# Altium integrated library ISSI SRAM Synchronous SRAM Flow-Through.IntLib: 689 symbols (part 69 of 79)
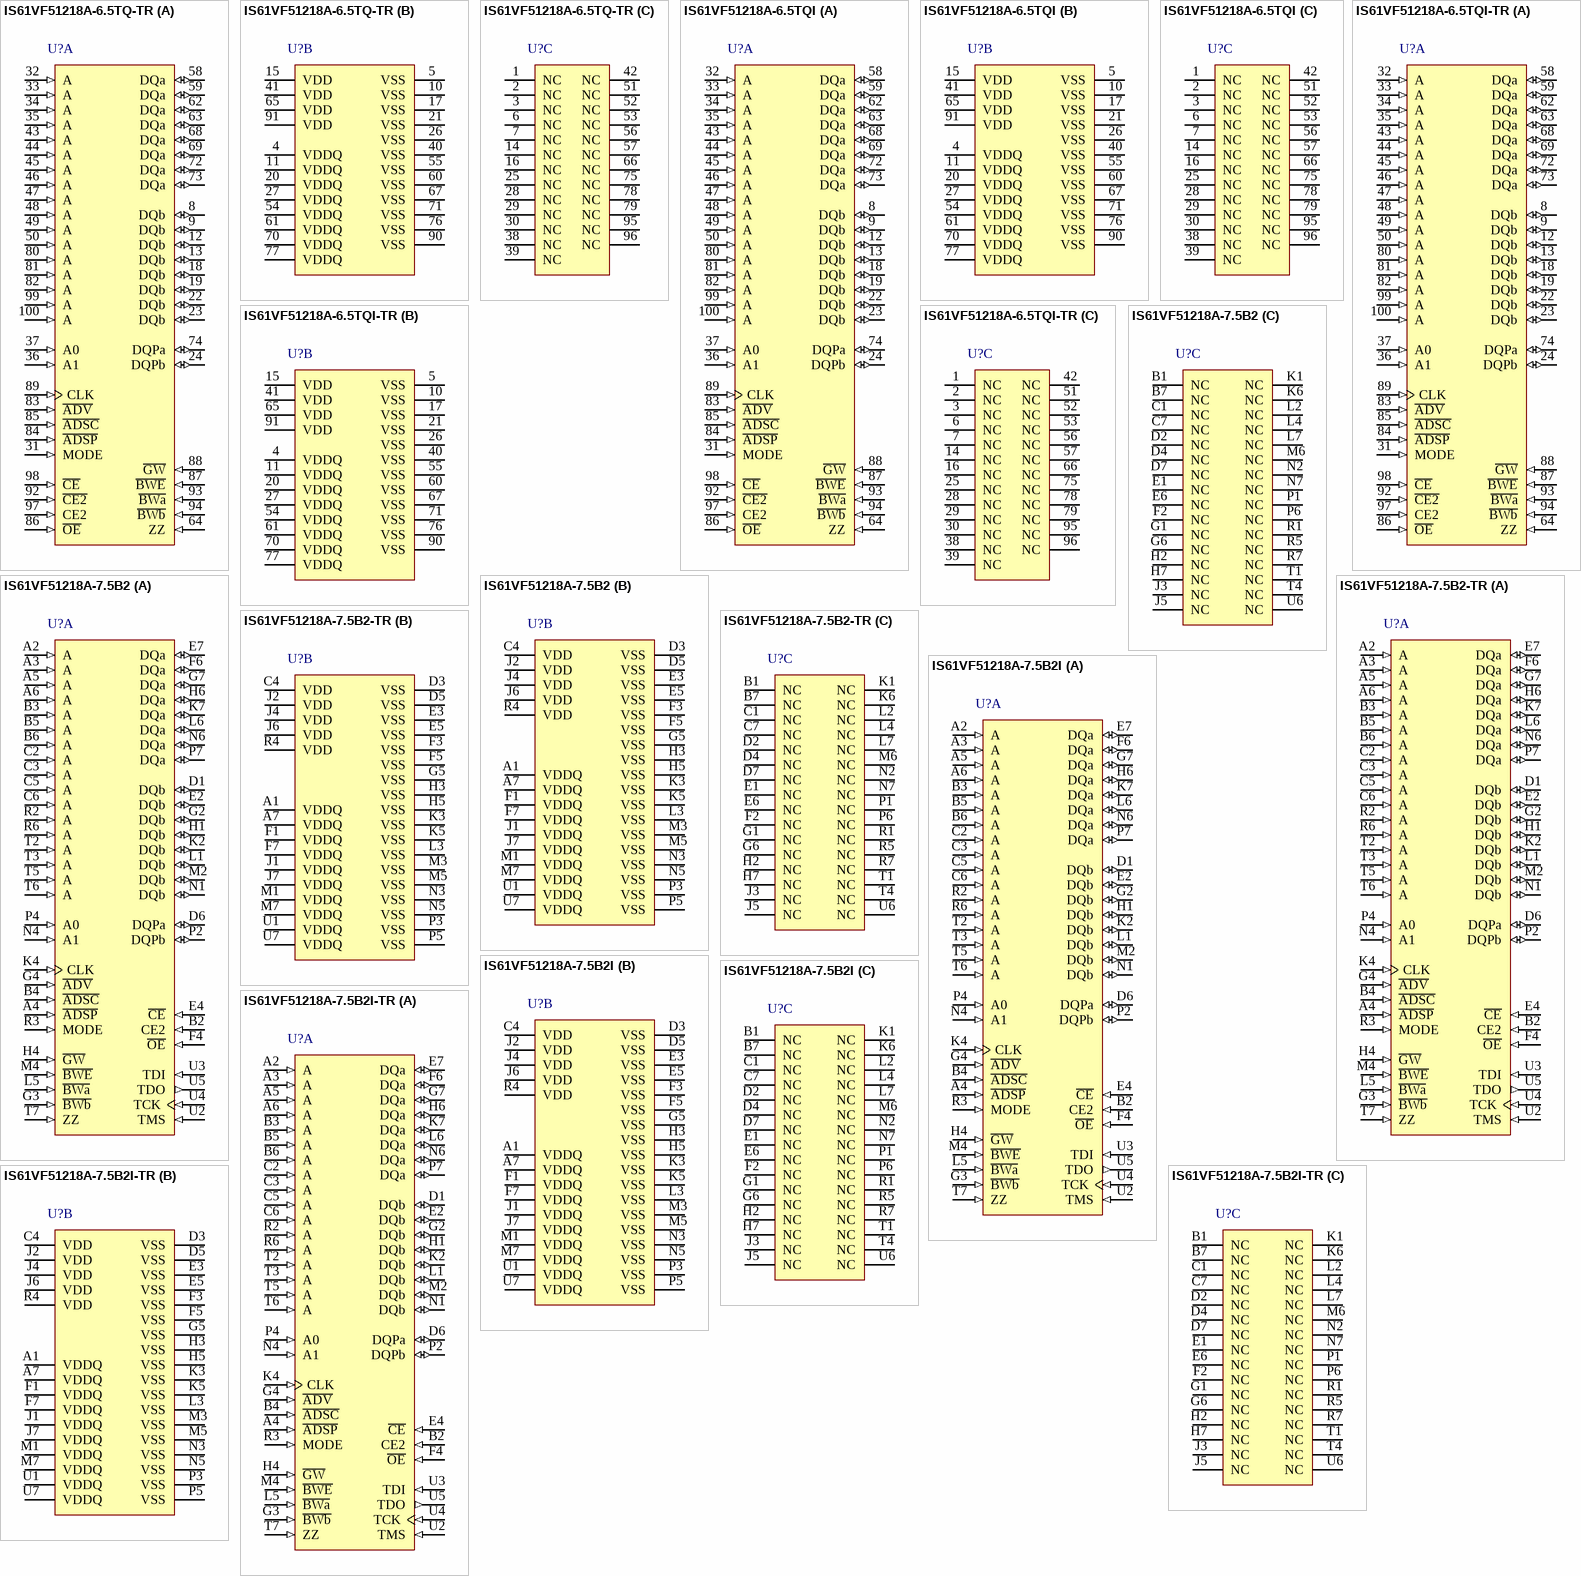
[diagram p203: symbols IS61VF51218A-6.5TQ-TR to IS61VF51218A-7.5B2I-TR]

## IS61VF51218A-6.5TQI-TR
designator U?
9 M Synchronous Flow Through SRAM, 512 K x 18, -40 to 85 degC, 100-Pin QFP (TQFP-100); Manufacturer: Integrated Silicon Solution Inc (ISSI); PartNumber: IS61VF51218A-6.5TQI-TR; Density: 9M; Packing: Tape & Reel; Vcc: 2.5 V; DatasheetVersion: Rev. H; PackageVersion: Rev. F, 09/2009; PackageReference: TQFP-100; PackageDescription: 100-Pin 20 x 14 mm LQFP, Pitch 0.65 mm; Organization: 512Kx18; VccQ: 2.5 V; Mounting Technology: Surface Mount; ComponentLink1Description: Manufacturer URL; ComponentLink1URL: http://www.issi.com/US/index.shtml; ComponentLink2Description: Datasheet; ComponentLink2URL: http://www.issi.com/WW/pdf/61VF_LF25636A_51218A.pdf; ComponentLink3Description: Package Specification; ComponentLink3URL: http://www.issi.com/WW/pdf/61VPS_LPS25636A_51218A.pdf
footprint ISSI-TQFP-100-20000X14000DE_N (QFP, 100-Leads, Body 20x14mm, Pitch 0.65mm, IPC Medium Density)
part A pins: 8 DQb (io) "Synchronous Data Input/Output", 9 DQb (io) "Synchronous Data Input/Output", 12 DQb (io) "Synchronous Data Input/Output", 13 DQb (io) "Synchronous Data Input/Output", 18 DQb (io) "Synchronous Data Input/Output", 19 DQb (io) "Synchronous Data Input/Output", 22 DQb (io) "Synchronous Data Input/Output", 23 DQb (io) "Synchronous Data Input/Output", 24 DQPb (io) "Parity Data I/O; DQPb is parity for DQb1-8", 31 MODE (in) "Burst Sequence Mode Selection", 32 A (in) "Synchronous Address Input", 33 A (in) "Synchronous Address Input", 34 A (in) "Synchronous Address Input", 35 A (in) "Synchronous Address Input", 36 A1 (in) "Synchronous Address Input. These pins must tied to the two LSBs of the address bus.", 37 A0 (in) "Synchronous Address Input. These pins must tied to the two LSBs of the address bus.", 43 A (in) "Synchronous Address Input", 44 A (in) "Synchronous Address Input", 45 A (in) "Synchronous Address Input", 46 A (in) "Synchronous Address Input", 47 A (in) "Synchronous Address Input", 48 A (in) "Synchronous Address Input", 49 A (in) "Synchronous Address Input", 50 A (in) "Synchronous Address Input", 58 DQa (io) "Synchronous Data Input/Output", 59 DQa (io) "Synchronous Data Input/Output", 62 DQa (io) "Synchronous Data Input/Output", 63 DQa (io) "Synchronous Data Input/Output", 64 ZZ (in) "Snooze Enable", 68 DQa (io) "Synchronous Data Input/Output", 69 DQa (io) "Synchronous Data Input/Output", 72 DQa (io) "Synchronous Data Input/Output", 73 DQa (io) "Synchronous Data Input/Output", 74 DQPa (io) "Parity Data I/O; DQPa is parity for DQa1-8", 80 A (in) "Synchronous Address Input", 81 A (in) "Synchronous Address Input", 82 A (in) "Synchronous Address Input", 83 ~{ADV} (in) "Synchronous Burst Address Advance", 84 ~{ADSP} (in) "Synchronous Processor Address Status", 85 ~{ADSC} (in) "Synchronous Controller Address Status", 86 ~{OE} (in) "Output Enable", 87 ~{BWE} (in) "Synchronous Byte Write Enable", 88 ~{GW} (in) "Synchronous Global Write Enable", 89 CLK (in) "Synchronous Clock", 92 ~{CE2} (in) "Synchronous Chip Enable", 93 ~{BWa} (in) "Synchronous Byte Write Enable", 94 ~{BWb} (in) "Synchronous Byte Write Enable", 97 CE2 (in) "Synchronous Chip Enable", 98 ~{CE} (in) "Synchronous Chip Enable", 99 A (in) "Synchronous Address Input", 100 A (in) "Synchronous Address Input"
part B pins: 4 VDDQ (power) "Isolated Output Buffer Supply:3.3V/2.5V", 5 VSS (power) "Ground", 10 VSS (power) "Ground", 11 VDDQ (power) "Isolated Output Buffer Supply:3.3V/2.5V", 15 VDD (power) "3.3V/2.5V Power Supply", 17 VSS (power) "Ground", 20 VDDQ (power) "Isolated Output Buffer Supply:3.3V/2.5V", 21 VSS (power) "Ground", 26 VSS (power) "Ground", 27 VDDQ (power) "Isolated Output Buffer Supply:3.3V/2.5V", 40 VSS (power) "Ground", 41 VDD (power) "3.3V/2.5V Power Supply", 54 VDDQ (power) "Isolated Output Buffer Supply:3.3V/2.5V", 55 VSS (power) "Ground", 60 VSS (power) "Ground", 61 VDDQ (power) "Isolated Output Buffer Supply:3.3V/2.5V", 65 VDD (power) "3.3V/2.5V Power Supply", 67 VSS (power) "Ground", 70 VDDQ (power) "Isolated Output Buffer Supply:3.3V/2.5V", 71 VSS (power) "Ground", 76 VSS (power) "Ground", 77 VDDQ (power) "Isolated Output Buffer Supply:3.3V/2.5V", 90 VSS (power) "Ground", 91 VDD (power) "3.3V/2.5V Power Supply"
part C pins: 1 NC "No Connect", 2 NC "No Connect", 3 NC "No Connect", 6 NC "No Connect", 7 NC "No Connect", 14 NC "No Connect", 16 NC "No Connect", 25 NC "No Connect", 28 NC "No Connect", 29 NC "No Connect", 30 NC "No Connect", 38 NC "No Connect", 39 NC "No Connect", 42 NC "No Connect", 51 NC "No Connect", 52 NC "No Connect", 53 NC "No Connect", 56 NC "No Connect", 57 NC "No Connect", 66 NC "No Connect", 75 NC "No Connect", 78 NC "No Connect", 79 NC "No Connect", 95 NC "No Connect", 96 NC "No Connect"

## IS61VF51218A-7.5B2
designator U?
9 M Synchronous Flow Through SRAM, 512 K x 18, 0 to 70 degC, 119-Pin BGA (PBGA-119); Manufacturer: Integrated Silicon Solution Inc (ISSI); PartNumber: IS61VF51218A-7.5B2; Density: 9M; Packing: Tray / Tube; Vcc: 2.5 V; DatasheetVersion: Rev. H; PackageVersion: Rev. D, 10/2008; PackageReference: PBGA-119; PackageDescription: 119-Pin 14 x 22 mm PBGA, Pitch 1.27 mm; Organization: 512Kx18; VccQ: 2.5 V; Mounting Technology: Surface Mount; Code_JEDEC: MS-028; ComponentLink1Description: Manufacturer URL; ComponentLink1URL: http://www.issi.com/US/index.shtml; ComponentLink2Description: Datasheet; ComponentLink2URL: http://www.issi.com/WW/pdf/61VF_LF25636A_51218A.pdf; ComponentLink3Description: Package Specification; ComponentLink3URL: http://www.issi.com/WW/pdf/61NLP_NVP25636A_51218A.pdf
footprint ISSI-PBGA-119-14000X22000DE (BGA, 119-Balls, Body 22x14mm, Pitch 1.27mm)
part A pins: A2 A (in) "Address Input", A3 A (in) "Address Input", A4 ~{ADSP} (in) "Address Status Processor", A5 A (in) "Address Input", A6 A (in) "Address Input", B2 CE2 (in) "Synchronous Chip Select", B3 A (in) "Address Input", B4 ~{ADSC} (in) "Address Status Controller", B5 A (in) "Address Input", B6 A (in) "Address Input", C2 A (in) "Address Input", C3 A (in) "Address Input", C5 A (in) "Address Input", C6 A (in) "Address Input", D1 DQb (io) "Data Input/Output", D6 DQPa (io) "Parity Data I/O", E2 DQb (io) "Data Input/Output", E4 ~{CE} (in) "Synchronous Chip Select", E7 DQa (io) "Data Input/Output", F4 ~{OE} (in) "Output Enable", F6 DQa (io) "Data Input/Output", G2 DQb (io) "Data Input/Output", G3 ~{BWb} (in) "Synchronous Byte Write Control", G4 ~{ADV} (in) "Synchronous Burst Address Advance", G7 DQa (io) "Data Input/Output", H1 DQb (io) "Data Input/Output", H4 ~{GW} (in) "Global Write Enable", H6 DQa (io) "Data Input/Output", K2 DQb (io) "Data Input/Output", K4 CLK (in) "Synchronous Clock", K7 DQa (io) "Data Input/Output", L1 DQb (io) "Data Input/Output", L5 ~{BWa} (in) "Synchronous Byte Write Control", L6 DQa (io) "Data Input/Output", M2 DQb (io) "Data Input/Output", M4 ~{BWE} (in) "Byte Write Enable", N1 DQb (io) "Data Input/Output", N4 A1 (in) "Synchronous Burst Address Input", N6 DQa (io) "Data Input/Output", P2 DQPb (io) "Parity Data I/O", P4 A0 (in) "Synchronous Burst Address Input", P7 DQa (io) "Data Input/Output", R2 A (in) "Address Input", R3 MODE (in) "Burst Sequence Selection", R6 A (in) "Address Input", T2 A (in) "Address Input", T3 A (in) "Address Input", T5 A (in) "Address Input", T6 A (in) "Address Input", T7 ZZ (in) "Power Sleep Mode", U2 TMS (in) "JTAG Pin", U3 TDI (in) "JTAG Pin", U4 TCK (in) "JTAG Pin", U5 TDO (out) "JTAG Pin"
part B pins: A1 VDDQ (power) "Output Power Supply", A7 VDDQ (power) "Output Power Supply", C4 VDD (power) "Power Supply", D3 VSS (power) "Ground", D5 VSS (power) "Ground", E3 VSS (power) "Ground", E5 VSS (power) "Ground", F1 VDDQ (power) "Output Power Supply", F3 VSS (power) "Ground", F5 VSS (power) "Ground", F7 VDDQ (power) "Output Power Supply", G5 VSS (power) "Ground", H3 VSS (power) "Ground", H5 VSS (power) "Ground", J1 VDDQ (power) "Output Power Supply", J2 VDD (power) "Power Supply", J4 VDD (power) "Power Supply", J6 VDD (power) "Power Supply", J7 VDDQ (power) "Output Power Supply", K3 VSS (power) "Ground", K5 VSS (power) "Ground", L3 VSS (power) "Ground", M1 VDDQ (power) "Output Power Supply", M3 VSS (power) "Ground", M5 VSS (power) "Ground", M7 VDDQ (power) "Output Power Supply", N3 VSS (power) "Ground", N5 VSS (power) "Output Power Supply", P3 VSS (power) "Ground", P5 VSS (power) "Ground", R4 VDD (power) "Power Supply", U1 VDDQ (power) "Output Power Supply", U7 VDDQ (power) "Output Power Supply"
part C pins: B1 NC "No Connect", B7 NC "No Connect", C1 NC "No Connect", C7 NC "No Connect", D2 NC "No Connect", D4 NC "No Connect", D7 NC "No Connect", E1 NC "No Connect", E6 NC "No Connect", F2 NC "No Connect", G1 NC "No Connect", G6 NC "No Connect", H2 NC "No Connect", H7 NC "No Connect", J3 NC "No Connect", J5 NC "No Connect", K1 NC "No Connect", K6 NC "No Connect", L2 NC "No Connect", L4 NC "No Connect", L7 NC "No Connect", M6 NC "No Connect", N2 NC "No Connect", N7 NC "No Connect", P1 NC "No Connect", P6 NC "No Connect", R1 NC "No Connect", R5 NC "No Connect", R7 NC "No Connect", T1 NC "No Connect", T4 NC "No Connect", U6 NC "No Connect"

## IS61VF51218A-7.5B2-TR
designator U?
9 M Synchronous Flow Through SRAM, 512 K x 18, 0 to 70 degC, 119-Pin BGA (PBGA-119); Manufacturer: Integrated Silicon Solution Inc (ISSI); PartNumber: IS61VF51218A-7.5B2-TR; Density: 9M; Packing: Tape & Reel; Vcc: 2.5 V; DatasheetVersion: Rev. H; PackageVersion: Rev. D, 10/2008; PackageReference: PBGA-119; PackageDescription: 119-Pin 14 x 22 mm PBGA, Pitch 1.27 mm; Organization: 512Kx18; VccQ: 2.5 V; Mounting Technology: Surface Mount; Code_JEDEC: MS-028; ComponentLink1Description: Manufacturer URL; ComponentLink1URL: http://www.issi.com/US/index.shtml; ComponentLink2Description: Datasheet; ComponentLink2URL: http://www.issi.com/WW/pdf/61VF_LF25636A_51218A.pdf; ComponentLink3Description: Package Specification; ComponentLink3URL: http://www.issi.com/WW/pdf/61NLP_NVP25636A_51218A.pdf
footprint ISSI-PBGA-119-14000X22000DE (BGA, 119-Balls, Body 22x14mm, Pitch 1.27mm)
part A pins: A2 A (in) "Address Input", A3 A (in) "Address Input", A4 ~{ADSP} (in) "Address Status Processor", A5 A (in) "Address Input", A6 A (in) "Address Input", B2 CE2 (in) "Synchronous Chip Select", B3 A (in) "Address Input", B4 ~{ADSC} (in) "Address Status Controller", B5 A (in) "Address Input", B6 A (in) "Address Input", C2 A (in) "Address Input", C3 A (in) "Address Input", C5 A (in) "Address Input", C6 A (in) "Address Input", D1 DQb (io) "Data Input/Output", D6 DQPa (io) "Parity Data I/O", E2 DQb (io) "Data Input/Output", E4 ~{CE} (in) "Synchronous Chip Select", E7 DQa (io) "Data Input/Output", F4 ~{OE} (in) "Output Enable", F6 DQa (io) "Data Input/Output", G2 DQb (io) "Data Input/Output", G3 ~{BWb} (in) "Synchronous Byte Write Control", G4 ~{ADV} (in) "Synchronous Burst Address Advance", G7 DQa (io) "Data Input/Output", H1 DQb (io) "Data Input/Output", H4 ~{GW} (in) "Global Write Enable", H6 DQa (io) "Data Input/Output", K2 DQb (io) "Data Input/Output", K4 CLK (in) "Synchronous Clock", K7 DQa (io) "Data Input/Output", L1 DQb (io) "Data Input/Output", L5 ~{BWa} (in) "Synchronous Byte Write Control", L6 DQa (io) "Data Input/Output", M2 DQb (io) "Data Input/Output", M4 ~{BWE} (in) "Byte Write Enable", N1 DQb (io) "Data Input/Output", N4 A1 (in) "Synchronous Burst Address Input", N6 DQa (io) "Data Input/Output", P2 DQPb (io) "Parity Data I/O", P4 A0 (in) "Synchronous Burst Address Input", P7 DQa (io) "Data Input/Output", R2 A (in) "Address Input", R3 MODE (in) "Burst Sequence Selection", R6 A (in) "Address Input", T2 A (in) "Address Input", T3 A (in) "Address Input", T5 A (in) "Address Input", T6 A (in) "Address Input", T7 ZZ (in) "Power Sleep Mode", U2 TMS (in) "JTAG Pin", U3 TDI (in) "JTAG Pin", U4 TCK (in) "JTAG Pin", U5 TDO (out) "JTAG Pin"
part B pins: A1 VDDQ (power) "Output Power Supply", A7 VDDQ (power) "Output Power Supply", C4 VDD (power) "Power Supply", D3 VSS (power) "Ground", D5 VSS (power) "Ground", E3 VSS (power) "Ground", E5 VSS (power) "Ground", F1 VDDQ (power) "Output Power Supply", F3 VSS (power) "Ground", F5 VSS (power) "Ground", F7 VDDQ (power) "Output Power Supply", G5 VSS (power) "Ground", H3 VSS (power) "Ground", H5 VSS (power) "Ground", J1 VDDQ (power) "Output Power Supply", J2 VDD (power) "Power Supply", J4 VDD (power) "Power Supply", J6 VDD (power) "Power Supply", J7 VDDQ (power) "Output Power Supply", K3 VSS (power) "Ground", K5 VSS (power) "Ground", L3 VSS (power) "Ground", M1 VDDQ (power) "Output Power Supply", M3 VSS (power) "Ground", M5 VSS (power) "Ground", M7 VDDQ (power) "Output Power Supply", N3 VSS (power) "Ground", N5 VSS (power) "Output Power Supply", P3 VSS (power) "Ground", P5 VSS (power) "Ground", R4 VDD (power) "Power Supply", U1 VDDQ (power) "Output Power Supply", U7 VDDQ (power) "Output Power Supply"
part C pins: B1 NC "No Connect", B7 NC "No Connect", C1 NC "No Connect", C7 NC "No Connect", D2 NC "No Connect", D4 NC "No Connect", D7 NC "No Connect", E1 NC "No Connect", E6 NC "No Connect", F2 NC "No Connect", G1 NC "No Connect", G6 NC "No Connect", H2 NC "No Connect", H7 NC "No Connect", J3 NC "No Connect", J5 NC "No Connect", K1 NC "No Connect", K6 NC "No Connect", L2 NC "No Connect", L4 NC "No Connect", L7 NC "No Connect", M6 NC "No Connect", N2 NC "No Connect", N7 NC "No Connect", P1 NC "No Connect", P6 NC "No Connect", R1 NC "No Connect", R5 NC "No Connect", R7 NC "No Connect", T1 NC "No Connect", T4 NC "No Connect", U6 NC "No Connect"

## IS61VF51218A-7.5B2I
designator U?
9 M Synchronous Flow Through SRAM, 512 K x 18, -40 to 85 degC, 119-Pin BGA (PBGA-119); Manufacturer: Integrated Silicon Solution Inc (ISSI); PartNumber: IS61VF51218A-7.5B2I; Density: 9M; Packing: Tray / Tube; Vcc: 2.5 V; DatasheetVersion: Rev. H; PackageVersion: Rev. D, 10/2008; PackageReference: PBGA-119; PackageDescription: 119-Pin 14 x 22 mm PBGA, Pitch 1.27 mm; Organization: 512Kx18; VccQ: 2.5 V; Mounting Technology: Surface Mount; Code_JEDEC: MS-028; ComponentLink1Description: Manufacturer URL; ComponentLink1URL: http://www.issi.com/US/index.shtml; ComponentLink2Description: Datasheet; ComponentLink2URL: http://www.issi.com/WW/pdf/61VF_LF25636A_51218A.pdf; ComponentLink3Description: Package Specification; ComponentLink3URL: http://www.issi.com/WW/pdf/61NLP_NVP25636A_51218A.pdf
footprint ISSI-PBGA-119-14000X22000DE (BGA, 119-Balls, Body 22x14mm, Pitch 1.27mm)
part A pins: A2 A (in) "Address Input", A3 A (in) "Address Input", A4 ~{ADSP} (in) "Address Status Processor", A5 A (in) "Address Input", A6 A (in) "Address Input", B2 CE2 (in) "Synchronous Chip Select", B3 A (in) "Address Input", B4 ~{ADSC} (in) "Address Status Controller", B5 A (in) "Address Input", B6 A (in) "Address Input", C2 A (in) "Address Input", C3 A (in) "Address Input", C5 A (in) "Address Input", C6 A (in) "Address Input", D1 DQb (io) "Data Input/Output", D6 DQPa (io) "Parity Data I/O", E2 DQb (io) "Data Input/Output", E4 ~{CE} (in) "Synchronous Chip Select", E7 DQa (io) "Data Input/Output", F4 ~{OE} (in) "Output Enable", F6 DQa (io) "Data Input/Output", G2 DQb (io) "Data Input/Output", G3 ~{BWb} (in) "Synchronous Byte Write Control", G4 ~{ADV} (in) "Synchronous Burst Address Advance", G7 DQa (io) "Data Input/Output", H1 DQb (io) "Data Input/Output", H4 ~{GW} (in) "Global Write Enable", H6 DQa (io) "Data Input/Output", K2 DQb (io) "Data Input/Output", K4 CLK (in) "Synchronous Clock", K7 DQa (io) "Data Input/Output", L1 DQb (io) "Data Input/Output", L5 ~{BWa} (in) "Synchronous Byte Write Control", L6 DQa (io) "Data Input/Output", M2 DQb (io) "Data Input/Output", M4 ~{BWE} (in) "Byte Write Enable", N1 DQb (io) "Data Input/Output", N4 A1 (in) "Synchronous Burst Address Input", N6 DQa (io) "Data Input/Output", P2 DQPb (io) "Parity Data I/O", P4 A0 (in) "Synchronous Burst Address Input", P7 DQa (io) "Data Input/Output", R2 A (in) "Address Input", R3 MODE (in) "Burst Sequence Selection", R6 A (in) "Address Input", T2 A (in) "Address Input", T3 A (in) "Address Input", T5 A (in) "Address Input", T6 A (in) "Address Input", T7 ZZ (in) "Power Sleep Mode", U2 TMS (in) "JTAG Pin", U3 TDI (in) "JTAG Pin", U4 TCK (in) "JTAG Pin", U5 TDO (out) "JTAG Pin"
part B pins: A1 VDDQ (power) "Output Power Supply", A7 VDDQ (power) "Output Power Supply", C4 VDD (power) "Power Supply", D3 VSS (power) "Ground", D5 VSS (power) "Ground", E3 VSS (power) "Ground", E5 VSS (power) "Ground", F1 VDDQ (power) "Output Power Supply", F3 VSS (power) "Ground", F5 VSS (power) "Ground", F7 VDDQ (power) "Output Power Supply", G5 VSS (power) "Ground", H3 VSS (power) "Ground", H5 VSS (power) "Ground", J1 VDDQ (power) "Output Power Supply", J2 VDD (power) "Power Supply", J4 VDD (power) "Power Supply", J6 VDD (power) "Power Supply", J7 VDDQ (power) "Output Power Supply", K3 VSS (power) "Ground", K5 VSS (power) "Ground", L3 VSS (power) "Ground", M1 VDDQ (power) "Output Power Supply", M3 VSS (power) "Ground", M5 VSS (power) "Ground", M7 VDDQ (power) "Output Power Supply", N3 VSS (power) "Ground", N5 VSS (power) "Output Power Supply", P3 VSS (power) "Ground", P5 VSS (power) "Ground", R4 VDD (power) "Power Supply", U1 VDDQ (power) "Output Power Supply", U7 VDDQ (power) "Output Power Supply"
part C pins: B1 NC "No Connect", B7 NC "No Connect", C1 NC "No Connect", C7 NC "No Connect", D2 NC "No Connect", D4 NC "No Connect", D7 NC "No Connect", E1 NC "No Connect", E6 NC "No Connect", F2 NC "No Connect", G1 NC "No Connect", G6 NC "No Connect", H2 NC "No Connect", H7 NC "No Connect", J3 NC "No Connect", J5 NC "No Connect", K1 NC "No Connect", K6 NC "No Connect", L2 NC "No Connect", L4 NC "No Connect", L7 NC "No Connect", M6 NC "No Connect", N2 NC "No Connect", N7 NC "No Connect", P1 NC "No Connect", P6 NC "No Connect", R1 NC "No Connect", R5 NC "No Connect", R7 NC "No Connect", T1 NC "No Connect", T4 NC "No Connect", U6 NC "No Connect"

## IS61VF51218A-7.5B2I-TR
designator U?
9 M Synchronous Flow Through SRAM, 512 K x 18, -40 to 85 degC, 119-Pin BGA (PBGA-119); Manufacturer: Integrated Silicon Solution Inc (ISSI); PartNumber: IS61VF51218A-7.5B2I-TR; Density: 9M; Packing: Tape & Reel; Vcc: 2.5 V; DatasheetVersion: Rev. H; PackageVersion: Rev. D, 10/2008; PackageReference: PBGA-119; PackageDescription: 119-Pin 14 x 22 mm PBGA, Pitch 1.27 mm; Organization: 512Kx18; VccQ: 2.5 V; Mounting Technology: Surface Mount; Code_JEDEC: MS-028; ComponentLink1Description: Manufacturer URL; ComponentLink1URL: http://www.issi.com/US/index.shtml; ComponentLink2Description: Datasheet; ComponentLink2URL: http://www.issi.com/WW/pdf/61VF_LF25636A_51218A.pdf; ComponentLink3Description: Package Specification; ComponentLink3URL: http://www.issi.com/WW/pdf/61NLP_NVP25636A_51218A.pdf
footprint ISSI-PBGA-119-14000X22000DE (BGA, 119-Balls, Body 22x14mm, Pitch 1.27mm)
part A pins: A2 A (in) "Address Input", A3 A (in) "Address Input", A4 ~{ADSP} (in) "Address Status Processor", A5 A (in) "Address Input", A6 A (in) "Address Input", B2 CE2 (in) "Synchronous Chip Select", B3 A (in) "Address Input", B4 ~{ADSC} (in) "Address Status Controller", B5 A (in) "Address Input", B6 A (in) "Address Input", C2 A (in) "Address Input", C3 A (in) "Address Input", C5 A (in) "Address Input", C6 A (in) "Address Input", D1 DQb (io) "Data Input/Output", D6 DQPa (io) "Parity Data I/O", E2 DQb (io) "Data Input/Output", E4 ~{CE} (in) "Synchronous Chip Select", E7 DQa (io) "Data Input/Output", F4 ~{OE} (in) "Output Enable", F6 DQa (io) "Data Input/Output", G2 DQb (io) "Data Input/Output", G3 ~{BWb} (in) "Synchronous Byte Write Control", G4 ~{ADV} (in) "Synchronous Burst Address Advance", G7 DQa (io) "Data Input/Output", H1 DQb (io) "Data Input/Output", H4 ~{GW} (in) "Global Write Enable", H6 DQa (io) "Data Input/Output", K2 DQb (io) "Data Input/Output", K4 CLK (in) "Synchronous Clock", K7 DQa (io) "Data Input/Output", L1 DQb (io) "Data Input/Output", L5 ~{BWa} (in) "Synchronous Byte Write Control", L6 DQa (io) "Data Input/Output", M2 DQb (io) "Data Input/Output", M4 ~{BWE} (in) "Byte Write Enable", N1 DQb (io) "Data Input/Output", N4 A1 (in) "Synchronous Burst Address Input", N6 DQa (io) "Data Input/Output", P2 DQPb (io) "Parity Data I/O", P4 A0 (in) "Synchronous Burst Address Input", P7 DQa (io) "Data Input/Output", R2 A (in) "Address Input", R3 MODE (in) "Burst Sequence Selection", R6 A (in) "Address Input", T2 A (in) "Address Input", T3 A (in) "Address Input", T5 A (in) "Address Input", T6 A (in) "Address Input", T7 ZZ (in) "Power Sleep Mode", U2 TMS (in) "JTAG Pin", U3 TDI (in) "JTAG Pin", U4 TCK (in) "JTAG Pin", U5 TDO (out) "JTAG Pin"
part B pins: A1 VDDQ (power) "Output Power Supply", A7 VDDQ (power) "Output Power Supply", C4 VDD (power) "Power Supply", D3 VSS (power) "Ground", D5 VSS (power) "Ground", E3 VSS (power) "Ground", E5 VSS (power) "Ground", F1 VDDQ (power) "Output Power Supply", F3 VSS (power) "Ground", F5 VSS (power) "Ground", F7 VDDQ (power) "Output Power Supply", G5 VSS (power) "Ground", H3 VSS (power) "Ground", H5 VSS (power) "Ground", J1 VDDQ (power) "Output Power Supply", J2 VDD (power) "Power Supply", J4 VDD (power) "Power Supply", J6 VDD (power) "Power Supply", J7 VDDQ (power) "Output Power Supply", K3 VSS (power) "Ground", K5 VSS (power) "Ground", L3 VSS (power) "Ground", M1 VDDQ (power) "Output Power Supply", M3 VSS (power) "Ground", M5 VSS (power) "Ground", M7 VDDQ (power) "Output Power Supply", N3 VSS (power) "Ground", N5 VSS (power) "Output Power Supply", P3 VSS (power) "Ground", P5 VSS (power) "Ground", R4 VDD (power) "Power Supply", U1 VDDQ (power) "Output Power Supply", U7 VDDQ (power) "Output Power Supply"
part C pins: B1 NC "No Connect", B7 NC "No Connect", C1 NC "No Connect", C7 NC "No Connect", D2 NC "No Connect", D4 NC "No Connect", D7 NC "No Connect", E1 NC "No Connect", E6 NC "No Connect", F2 NC "No Connect", G1 NC "No Connect", G6 NC "No Connect", H2 NC "No Connect", H7 NC "No Connect", J3 NC "No Connect", J5 NC "No Connect", K1 NC "No Connect", K6 NC "No Connect", L2 NC "No Connect", L4 NC "No Connect", L7 NC "No Connect", M6 NC "No Connect", N2 NC "No Connect", N7 NC "No Connect", P1 NC "No Connect", P6 NC "No Connect", R1 NC "No Connect", R5 NC "No Connect", R7 NC "No Connect", T1 NC "No Connect", T4 NC "No Connect", U6 NC "No Connect"

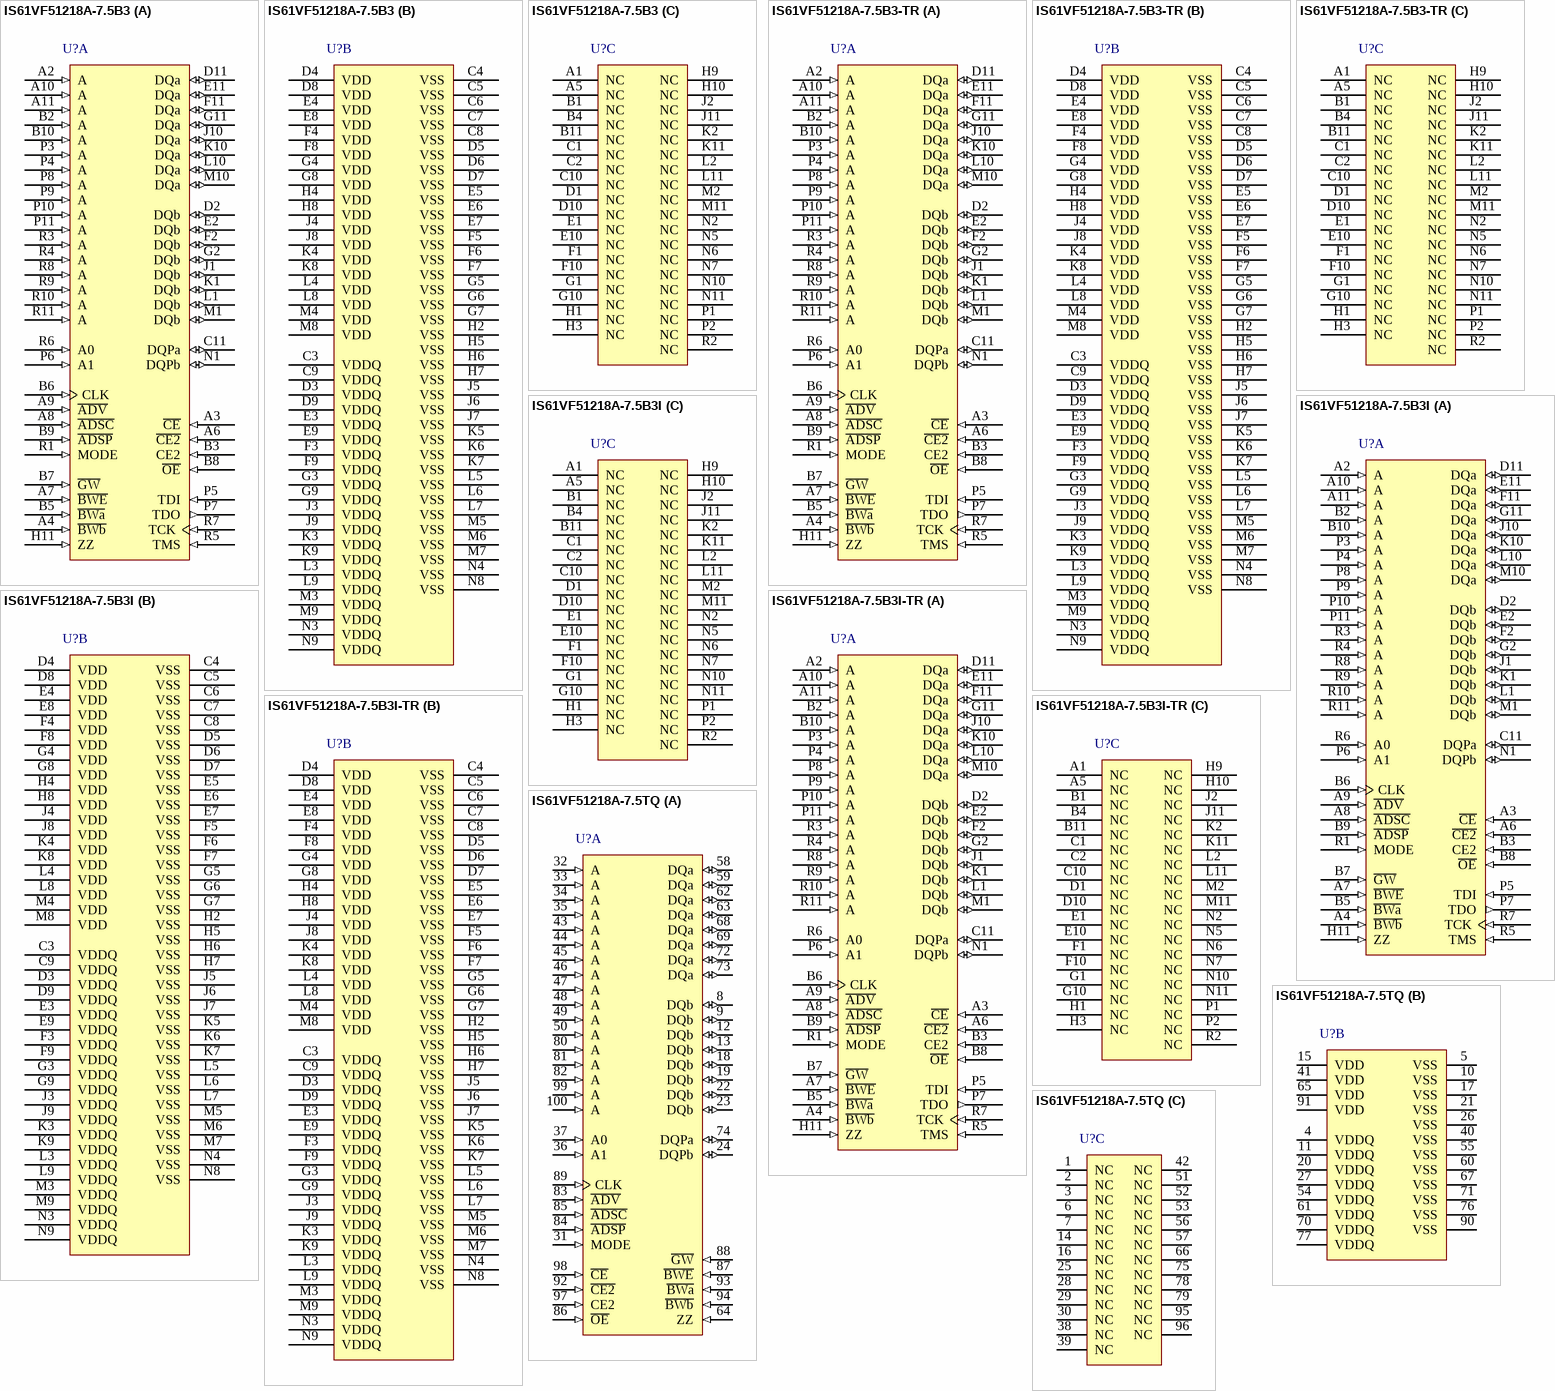
[diagram p118: symbols IS61VF51218A-7.5B3 to IS61VF51218A-7.5TQ]

## IS61VF51218A-7.5B3
designator U?
9 M Synchronous Flow Through SRAM, 512 K x 18, 0 to 70 degC, 165-Pin BGA (TF-BGA-165); Manufacturer: Integrated Silicon Solution Inc (ISSI); PartNumber: IS61VF51218A-7.5B3; Density: 9M; Packing: Tray / Tube; Vcc: 2.5 V; DatasheetVersion: Rev. H; PackageVersion: Rev. B, 08/2008; PackageReference: TF-BGA-165; PackageDescription: 165-Pin 13 x 15 mm TF-BGA, Pitch 1 mm; Organization: 512Kx18; VccQ: 2.5 V; Mounting Technology: Surface Mount; ComponentLink1Description: Manufacturer URL; ComponentLink1URL: http://www.issi.com/US/index.shtml; ComponentLink2Description: Datasheet; ComponentLink2URL: http://www.issi.com/WW/pdf/61VF_LF25636A_51218A.pdf; ComponentLink3Description: Package Specification; ComponentLink3URL: http://www.issi.com/WW/pdf/61NLP_NVP25636A_51218A.pdf
footprint ISSI-TF-BGA-165-13000X15000DE (BGA, 165-Balls, Body 15x13mm, Pitch 1mm)
part A pins: A2 A (in) "Address Input", A3 ~{CE} (in) "Synchronous Chip Select", A4 ~{BWb} (in) "Synchronous Byte Write Control", A6 ~{CE2} (in) "Synchronous Chip Select", A7 ~{BWE} (in) "Byte Write Enable", A8 ~{ADSC} (in) "Address Status Controller", A9 ~{ADV} (in) "Synchronous Burst Address Advance", A10 A (in) "Address Input", A11 A (in) "Address Input", B2 A (in) "Address Input", B3 CE2 (in) "Synchronous Chip Select", B5 ~{BWa} (in) "Synchronous Byte Write Control", B6 CLK (in) "Synchronous Clock", B7 ~{GW} (in) "Global Write Enable", B8 ~{OE} (in) "Output Enable", B9 ~{ADSP} (in) "Address Status Processor", B10 A (in) "Address Input", C11 DQPa (io) "Data Input/Output", D2 DQb (io) "Data Input/Output", D11 DQa (io) "Data Input/Output", E2 DQb (io) "Data Input/Output", E11 DQa (io) "Data Input/Output", F2 DQb (io) "Data Input/Output", F11 DQa (io) "Data Input/Output", G2 DQb (io) "Data Input/Output", G11 DQa (io) "Data Input/Output", H11 ZZ (in) "Power Sleep Mode", J1 DQb (io) "Data Input/Output", J10 DQa (io) "Data Input/Output", K1 DQb (io) "Data Input/Output", K10 DQa (io) "Data Input/Output", L1 DQb (io) "Data Input/Output", L10 DQa (io) "Data Input/Output", M1 DQb (io) "Data Input/Output", M10 DQa (io) "Data Input/Output", N1 DQPb (io) "Data Input/Output", P3 A (in) "Address Input", P4 A (in) "Address Input", P5 TDI (in) "JTAG Pin", P6 A1 (in) "Synchronous Burst Address Input", P7 TDO (out) "JTAG Pin", P8 A (in) "Address Input", P9 A (in) "Address Input", P10 A (in) "Address Input", P11 A (in) "Address Input", R1 MODE (in) "Burst Sequence Selection", R3 A (in) "Address Input", R4 A (in) "Address Input", R5 TMS (in) "JTAG Pin", R6 A0 (in) "Synchronous Burst Address Input", R7 TCK (in) "JTAG Pin", R8 A (in) "Address Input", R9 A (in) "Address Input", R10 A (in) "Address Input", R11 A (in) "Address Input"
part B pins: C3 VDDQ (power) "Isolated Output Power Supply 3.3V/2.5V", C4 VSS (power) "Ground", C5 VSS (power) "Ground", C6 VSS (power) "Ground", C7 VSS (power) "Ground", C8 VSS (power) "Ground", C9 VDDQ (power) "Isolated Output Power Supply 3.3V/2.5V", D3 VDDQ (power) "Isolated Output Power Supply 3.3V/2.5V", D4 VDD (power) "3.3V/2.5V Power Supply", D5 VSS (power) "Ground", D6 VSS (power) "Ground", D7 VSS (power) "Ground", D8 VDD (power) "3.3V/2.5V Power Supply", D9 VDDQ (power) "Isolated Output Power Supply 3.3V/2.5V", E3 VDDQ (power) "Isolated Output Power Supply 3.3V/2.5V", E4 VDD (power) "3.3V/2.5V Power Supply", E5 VSS (power) "Ground", E6 VSS (power) "Ground", E7 VSS (power) "Ground", E8 VDD (power) "3.3V/2.5V Power Supply", E9 VDDQ (power) "Isolated Output Power Supply 3.3V/2.5V", F3 VDDQ (power) "Isolated Output Power Supply 3.3V/2.5V", F4 VDD (power) "3.3V/2.5V Power Supply", F5 VSS (power) "Ground", F6 VSS (power) "Ground", F7 VSS (power) "Ground", F8 VDD (power) "3.3V/2.5V Power Supply", F9 VDDQ (power) "Isolated Output Power Supply 3.3V/2.5V", G3 VDDQ (power) "Isolated Output Power Supply 3.3V/2.5V", G4 VDD (power) "3.3V/2.5V Power Supply", G5 VSS (power) "Ground", G6 VSS (power) "Ground", G7 VSS (power) "Ground", G8 VDD (power) "3.3V/2.5V Power Supply", G9 VDDQ (power) "Isolated Output Power Supply 3.3V/2.5V", H2 VSS (power) "Ground", H4 VDD (power) "3.3V/2.5V Power Supply", H5 VSS (power) "Ground", H6 VSS (power) "Ground", H7 VSS (power) "Ground", H8 VDD (power) "3.3V/2.5V Power Supply", J3 VDDQ (power) "Isolated Output Power Supply 3.3V/2.5V", J4 VDD (power) "3.3V/2.5V Power Supply", J5 VSS (power) "Ground", J6 VSS (power) "Ground", J7 VSS (power) "Ground", J8 VDD (power) "3.3V/2.5V Power Supply", J9 VDDQ (power) "Isolated Output Power Supply 3.3V/2.5V", K3 VDDQ (power) "Isolated Output Power Supply 3.3V/2.5V", K4 VDD (power) "3.3V/2.5V Power Supply", K5 VSS (power) "Ground", K6 VSS (power) "Ground", K7 VSS (power) "Ground", K8 VDD (power) "3.3V/2.5V Power Supply", K9 VDDQ (power) "Isolated Output Power Supply 3.3V/2.5V", L3 VDDQ (power) "Isolated Output Power Supply 3.3V/2.5V", L4 VDD (power) "3.3V/2.5V Power Supply", L5 VSS (power) "Ground", L6 VSS (power) "Ground", L7 VSS (power) "Ground", L8 VDD (power) "3.3V/2.5V Power Supply", L9 VDDQ (power) "Isolated Output Power Supply 3.3V/2.5V", M3 VDDQ (power) "Isolated Output Power Supply 3.3V/2.5V", M4 VDD (power) "3.3V/2.5V Power Supply", M5 VSS (power) "Ground", M6 VSS (power) "Ground", M7 VSS (power) "Ground", M8 VDD (power) "3.3V/2.5V Power Supply", M9 VDDQ (power) "Isolated Output Power Supply 3.3V/2.5V", N3 VDDQ (power) "Isolated Output Power Supply 3.3V/2.5V", N4 VSS (power) "Ground", N8 VSS (power) "Ground", N9 VDDQ (power) "Isolated Output Power Supply 3.3V/2.5V"
part C pins: A1 NC "No Connect", A5 NC "No Connect", B1 NC "No Connect", B4 NC "No Connect", B11 NC "No Connect", C1 NC "No Connect", C2 NC "No Connect", C10 NC "No Connect", D1 NC "No Connect", D10 NC "No Connect", E1 NC "No Connect", E10 NC "No Connect", F1 NC "No Connect", F10 NC "No Connect", G1 NC "No Connect", G10 NC "No Connect", H1 NC "No Connect", H3 NC "No Connect", H9 NC "No Connect", H10 NC "No Connect", J2 NC "No Connect", J11 NC "No Connect", K2 NC "No Connect", K11 NC "No Connect", L2 NC "No Connect", L11 NC "No Connect", M2 NC "No Connect", M11 NC "No Connect", N2 NC "No Connect", N5 NC "No Connect", N6 NC "No Connect", N7 NC "No Connect", N10 NC "No Connect", N11 NC "No Connect", P1 NC "No Connect", P2 NC "No Connect", R2 NC "No Connect"

## IS61VF51218A-7.5B3-TR
designator U?
9 M Synchronous Flow Through SRAM, 512 K x 18, 0 to 70 degC, 165-Pin BGA (TF-BGA-165); Manufacturer: Integrated Silicon Solution Inc (ISSI); PartNumber: IS61VF51218A-7.5B3-TR; Density: 9M; Packing: Tape & Reel; Vcc: 2.5 V; DatasheetVersion: Rev. H; PackageVersion: Rev. B, 08/2008; PackageReference: TF-BGA-165; PackageDescription: 165-Pin 13 x 15 mm TF-BGA, Pitch 1 mm; Organization: 512Kx18; VccQ: 2.5 V; Mounting Technology: Surface Mount; ComponentLink1Description: Manufacturer URL; ComponentLink1URL: http://www.issi.com/US/index.shtml; ComponentLink2Description: Datasheet; ComponentLink2URL: http://www.issi.com/WW/pdf/61VF_LF25636A_51218A.pdf; ComponentLink3Description: Package Specification; ComponentLink3URL: http://www.issi.com/WW/pdf/61NLP_NVP25636A_51218A.pdf
footprint ISSI-TF-BGA-165-13000X15000DE (BGA, 165-Balls, Body 15x13mm, Pitch 1mm)
part A pins: A2 A (in) "Address Input", A3 ~{CE} (in) "Synchronous Chip Select", A4 ~{BWb} (in) "Synchronous Byte Write Control", A6 ~{CE2} (in) "Synchronous Chip Select", A7 ~{BWE} (in) "Byte Write Enable", A8 ~{ADSC} (in) "Address Status Controller", A9 ~{ADV} (in) "Synchronous Burst Address Advance", A10 A (in) "Address Input", A11 A (in) "Address Input", B2 A (in) "Address Input", B3 CE2 (in) "Synchronous Chip Select", B5 ~{BWa} (in) "Synchronous Byte Write Control", B6 CLK (in) "Synchronous Clock", B7 ~{GW} (in) "Global Write Enable", B8 ~{OE} (in) "Output Enable", B9 ~{ADSP} (in) "Address Status Processor", B10 A (in) "Address Input", C11 DQPa (io) "Data Input/Output", D2 DQb (io) "Data Input/Output", D11 DQa (io) "Data Input/Output", E2 DQb (io) "Data Input/Output", E11 DQa (io) "Data Input/Output", F2 DQb (io) "Data Input/Output", F11 DQa (io) "Data Input/Output", G2 DQb (io) "Data Input/Output", G11 DQa (io) "Data Input/Output", H11 ZZ (in) "Power Sleep Mode", J1 DQb (io) "Data Input/Output", J10 DQa (io) "Data Input/Output", K1 DQb (io) "Data Input/Output", K10 DQa (io) "Data Input/Output", L1 DQb (io) "Data Input/Output", L10 DQa (io) "Data Input/Output", M1 DQb (io) "Data Input/Output", M10 DQa (io) "Data Input/Output", N1 DQPb (io) "Data Input/Output", P3 A (in) "Address Input", P4 A (in) "Address Input", P5 TDI (in) "JTAG Pin", P6 A1 (in) "Synchronous Burst Address Input", P7 TDO (out) "JTAG Pin", P8 A (in) "Address Input", P9 A (in) "Address Input", P10 A (in) "Address Input", P11 A (in) "Address Input", R1 MODE (in) "Burst Sequence Selection", R3 A (in) "Address Input", R4 A (in) "Address Input", R5 TMS (in) "JTAG Pin", R6 A0 (in) "Synchronous Burst Address Input", R7 TCK (in) "JTAG Pin", R8 A (in) "Address Input", R9 A (in) "Address Input", R10 A (in) "Address Input", R11 A (in) "Address Input"
part B pins: C3 VDDQ (power) "Isolated Output Power Supply 3.3V/2.5V", C4 VSS (power) "Ground", C5 VSS (power) "Ground", C6 VSS (power) "Ground", C7 VSS (power) "Ground", C8 VSS (power) "Ground", C9 VDDQ (power) "Isolated Output Power Supply 3.3V/2.5V", D3 VDDQ (power) "Isolated Output Power Supply 3.3V/2.5V", D4 VDD (power) "3.3V/2.5V Power Supply", D5 VSS (power) "Ground", D6 VSS (power) "Ground", D7 VSS (power) "Ground", D8 VDD (power) "3.3V/2.5V Power Supply", D9 VDDQ (power) "Isolated Output Power Supply 3.3V/2.5V", E3 VDDQ (power) "Isolated Output Power Supply 3.3V/2.5V", E4 VDD (power) "3.3V/2.5V Power Supply", E5 VSS (power) "Ground", E6 VSS (power) "Ground", E7 VSS (power) "Ground", E8 VDD (power) "3.3V/2.5V Power Supply", E9 VDDQ (power) "Isolated Output Power Supply 3.3V/2.5V", F3 VDDQ (power) "Isolated Output Power Supply 3.3V/2.5V", F4 VDD (power) "3.3V/2.5V Power Supply", F5 VSS (power) "Ground", F6 VSS (power) "Ground", F7 VSS (power) "Ground", F8 VDD (power) "3.3V/2.5V Power Supply", F9 VDDQ (power) "Isolated Output Power Supply 3.3V/2.5V", G3 VDDQ (power) "Isolated Output Power Supply 3.3V/2.5V", G4 VDD (power) "3.3V/2.5V Power Supply", G5 VSS (power) "Ground", G6 VSS (power) "Ground", G7 VSS (power) "Ground", G8 VDD (power) "3.3V/2.5V Power Supply", G9 VDDQ (power) "Isolated Output Power Supply 3.3V/2.5V", H2 VSS (power) "Ground", H4 VDD (power) "3.3V/2.5V Power Supply", H5 VSS (power) "Ground", H6 VSS (power) "Ground", H7 VSS (power) "Ground", H8 VDD (power) "3.3V/2.5V Power Supply", J3 VDDQ (power) "Isolated Output Power Supply 3.3V/2.5V", J4 VDD (power) "3.3V/2.5V Power Supply", J5 VSS (power) "Ground", J6 VSS (power) "Ground", J7 VSS (power) "Ground", J8 VDD (power) "3.3V/2.5V Power Supply", J9 VDDQ (power) "Isolated Output Power Supply 3.3V/2.5V", K3 VDDQ (power) "Isolated Output Power Supply 3.3V/2.5V", K4 VDD (power) "3.3V/2.5V Power Supply", K5 VSS (power) "Ground", K6 VSS (power) "Ground", K7 VSS (power) "Ground", K8 VDD (power) "3.3V/2.5V Power Supply", K9 VDDQ (power) "Isolated Output Power Supply 3.3V/2.5V", L3 VDDQ (power) "Isolated Output Power Supply 3.3V/2.5V", L4 VDD (power) "3.3V/2.5V Power Supply", L5 VSS (power) "Ground", L6 VSS (power) "Ground", L7 VSS (power) "Ground", L8 VDD (power) "3.3V/2.5V Power Supply", L9 VDDQ (power) "Isolated Output Power Supply 3.3V/2.5V", M3 VDDQ (power) "Isolated Output Power Supply 3.3V/2.5V", M4 VDD (power) "3.3V/2.5V Power Supply", M5 VSS (power) "Ground", M6 VSS (power) "Ground", M7 VSS (power) "Ground", M8 VDD (power) "3.3V/2.5V Power Supply", M9 VDDQ (power) "Isolated Output Power Supply 3.3V/2.5V", N3 VDDQ (power) "Isolated Output Power Supply 3.3V/2.5V", N4 VSS (power) "Ground", N8 VSS (power) "Ground", N9 VDDQ (power) "Isolated Output Power Supply 3.3V/2.5V"
part C pins: A1 NC "No Connect", A5 NC "No Connect", B1 NC "No Connect", B4 NC "No Connect", B11 NC "No Connect", C1 NC "No Connect", C2 NC "No Connect", C10 NC "No Connect", D1 NC "No Connect", D10 NC "No Connect", E1 NC "No Connect", E10 NC "No Connect", F1 NC "No Connect", F10 NC "No Connect", G1 NC "No Connect", G10 NC "No Connect", H1 NC "No Connect", H3 NC "No Connect", H9 NC "No Connect", H10 NC "No Connect", J2 NC "No Connect", J11 NC "No Connect", K2 NC "No Connect", K11 NC "No Connect", L2 NC "No Connect", L11 NC "No Connect", M2 NC "No Connect", M11 NC "No Connect", N2 NC "No Connect", N5 NC "No Connect", N6 NC "No Connect", N7 NC "No Connect", N10 NC "No Connect", N11 NC "No Connect", P1 NC "No Connect", P2 NC "No Connect", R2 NC "No Connect"

## IS61VF51218A-7.5B3I
designator U?
9 M Synchronous Flow Through SRAM, 512 K x 18, -40 to 85 degC, 165-Pin BGA (TF-BGA-165); Manufacturer: Integrated Silicon Solution Inc (ISSI); PartNumber: IS61VF51218A-7.5B3I; Density: 9M; Packing: Tray / Tube; Vcc: 2.5 V; DatasheetVersion: Rev. H; PackageVersion: Rev. B, 08/2008; PackageReference: TF-BGA-165; PackageDescription: 165-Pin 13 x 15 mm TF-BGA, Pitch 1 mm; Organization: 512Kx18; VccQ: 2.5 V; Mounting Technology: Surface Mount; ComponentLink1Description: Manufacturer URL; ComponentLink1URL: http://www.issi.com/US/index.shtml; ComponentLink2Description: Datasheet; ComponentLink2URL: http://www.issi.com/WW/pdf/61VF_LF25636A_51218A.pdf; ComponentLink3Description: Package Specification; ComponentLink3URL: http://www.issi.com/WW/pdf/61NLP_NVP25636A_51218A.pdf
footprint ISSI-TF-BGA-165-13000X15000DE (BGA, 165-Balls, Body 15x13mm, Pitch 1mm)
part A pins: A2 A (in) "Address Input", A3 ~{CE} (in) "Synchronous Chip Select", A4 ~{BWb} (in) "Synchronous Byte Write Control", A6 ~{CE2} (in) "Synchronous Chip Select", A7 ~{BWE} (in) "Byte Write Enable", A8 ~{ADSC} (in) "Address Status Controller", A9 ~{ADV} (in) "Synchronous Burst Address Advance", A10 A (in) "Address Input", A11 A (in) "Address Input", B2 A (in) "Address Input", B3 CE2 (in) "Synchronous Chip Select", B5 ~{BWa} (in) "Synchronous Byte Write Control", B6 CLK (in) "Synchronous Clock", B7 ~{GW} (in) "Global Write Enable", B8 ~{OE} (in) "Output Enable", B9 ~{ADSP} (in) "Address Status Processor", B10 A (in) "Address Input", C11 DQPa (io) "Data Input/Output", D2 DQb (io) "Data Input/Output", D11 DQa (io) "Data Input/Output", E2 DQb (io) "Data Input/Output", E11 DQa (io) "Data Input/Output", F2 DQb (io) "Data Input/Output", F11 DQa (io) "Data Input/Output", G2 DQb (io) "Data Input/Output", G11 DQa (io) "Data Input/Output", H11 ZZ (in) "Power Sleep Mode", J1 DQb (io) "Data Input/Output", J10 DQa (io) "Data Input/Output", K1 DQb (io) "Data Input/Output", K10 DQa (io) "Data Input/Output", L1 DQb (io) "Data Input/Output", L10 DQa (io) "Data Input/Output", M1 DQb (io) "Data Input/Output", M10 DQa (io) "Data Input/Output", N1 DQPb (io) "Data Input/Output", P3 A (in) "Address Input", P4 A (in) "Address Input", P5 TDI (in) "JTAG Pin", P6 A1 (in) "Synchronous Burst Address Input", P7 TDO (out) "JTAG Pin", P8 A (in) "Address Input", P9 A (in) "Address Input", P10 A (in) "Address Input", P11 A (in) "Address Input", R1 MODE (in) "Burst Sequence Selection", R3 A (in) "Address Input", R4 A (in) "Address Input", R5 TMS (in) "JTAG Pin", R6 A0 (in) "Synchronous Burst Address Input", R7 TCK (in) "JTAG Pin", R8 A (in) "Address Input", R9 A (in) "Address Input", R10 A (in) "Address Input", R11 A (in) "Address Input"
part B pins: C3 VDDQ (power) "Isolated Output Power Supply 3.3V/2.5V", C4 VSS (power) "Ground", C5 VSS (power) "Ground", C6 VSS (power) "Ground", C7 VSS (power) "Ground", C8 VSS (power) "Ground", C9 VDDQ (power) "Isolated Output Power Supply 3.3V/2.5V", D3 VDDQ (power) "Isolated Output Power Supply 3.3V/2.5V", D4 VDD (power) "3.3V/2.5V Power Supply", D5 VSS (power) "Ground", D6 VSS (power) "Ground", D7 VSS (power) "Ground", D8 VDD (power) "3.3V/2.5V Power Supply", D9 VDDQ (power) "Isolated Output Power Supply 3.3V/2.5V", E3 VDDQ (power) "Isolated Output Power Supply 3.3V/2.5V", E4 VDD (power) "3.3V/2.5V Power Supply", E5 VSS (power) "Ground", E6 VSS (power) "Ground", E7 VSS (power) "Ground", E8 VDD (power) "3.3V/2.5V Power Supply", E9 VDDQ (power) "Isolated Output Power Supply 3.3V/2.5V", F3 VDDQ (power) "Isolated Output Power Supply 3.3V/2.5V", F4 VDD (power) "3.3V/2.5V Power Supply", F5 VSS (power) "Ground", F6 VSS (power) "Ground", F7 VSS (power) "Ground", F8 VDD (power) "3.3V/2.5V Power Supply", F9 VDDQ (power) "Isolated Output Power Supply 3.3V/2.5V", G3 VDDQ (power) "Isolated Output Power Supply 3.3V/2.5V", G4 VDD (power) "3.3V/2.5V Power Supply", G5 VSS (power) "Ground", G6 VSS (power) "Ground", G7 VSS (power) "Ground", G8 VDD (power) "3.3V/2.5V Power Supply", G9 VDDQ (power) "Isolated Output Power Supply 3.3V/2.5V", H2 VSS (power) "Ground", H4 VDD (power) "3.3V/2.5V Power Supply", H5 VSS (power) "Ground", H6 VSS (power) "Ground", H7 VSS (power) "Ground", H8 VDD (power) "3.3V/2.5V Power Supply", J3 VDDQ (power) "Isolated Output Power Supply 3.3V/2.5V", J4 VDD (power) "3.3V/2.5V Power Supply", J5 VSS (power) "Ground", J6 VSS (power) "Ground", J7 VSS (power) "Ground", J8 VDD (power) "3.3V/2.5V Power Supply", J9 VDDQ (power) "Isolated Output Power Supply 3.3V/2.5V", K3 VDDQ (power) "Isolated Output Power Supply 3.3V/2.5V", K4 VDD (power) "3.3V/2.5V Power Supply", K5 VSS (power) "Ground", K6 VSS (power) "Ground", K7 VSS (power) "Ground", K8 VDD (power) "3.3V/2.5V Power Supply", K9 VDDQ (power) "Isolated Output Power Supply 3.3V/2.5V", L3 VDDQ (power) "Isolated Output Power Supply 3.3V/2.5V", L4 VDD (power) "3.3V/2.5V Power Supply", L5 VSS (power) "Ground", L6 VSS (power) "Ground", L7 VSS (power) "Ground", L8 VDD (power) "3.3V/2.5V Power Supply", L9 VDDQ (power) "Isolated Output Power Supply 3.3V/2.5V", M3 VDDQ (power) "Isolated Output Power Supply 3.3V/2.5V", M4 VDD (power) "3.3V/2.5V Power Supply", M5 VSS (power) "Ground", M6 VSS (power) "Ground", M7 VSS (power) "Ground", M8 VDD (power) "3.3V/2.5V Power Supply", M9 VDDQ (power) "Isolated Output Power Supply 3.3V/2.5V", N3 VDDQ (power) "Isolated Output Power Supply 3.3V/2.5V", N4 VSS (power) "Ground", N8 VSS (power) "Ground", N9 VDDQ (power) "Isolated Output Power Supply 3.3V/2.5V"
part C pins: A1 NC "No Connect", A5 NC "No Connect", B1 NC "No Connect", B4 NC "No Connect", B11 NC "No Connect", C1 NC "No Connect", C2 NC "No Connect", C10 NC "No Connect", D1 NC "No Connect", D10 NC "No Connect", E1 NC "No Connect", E10 NC "No Connect", F1 NC "No Connect", F10 NC "No Connect", G1 NC "No Connect", G10 NC "No Connect", H1 NC "No Connect", H3 NC "No Connect", H9 NC "No Connect", H10 NC "No Connect", J2 NC "No Connect", J11 NC "No Connect", K2 NC "No Connect", K11 NC "No Connect", L2 NC "No Connect", L11 NC "No Connect", M2 NC "No Connect", M11 NC "No Connect", N2 NC "No Connect", N5 NC "No Connect", N6 NC "No Connect", N7 NC "No Connect", N10 NC "No Connect", N11 NC "No Connect", P1 NC "No Connect", P2 NC "No Connect", R2 NC "No Connect"

## IS61VF51218A-7.5B3I-TR
designator U?
9 M Synchronous Flow Through SRAM, 512 K x 18, -40 to 85 degC, 165-Pin BGA (TF-BGA-165); Manufacturer: Integrated Silicon Solution Inc (ISSI); PartNumber: IS61VF51218A-7.5B3I-TR; Density: 9M; Packing: Tape & Reel; Vcc: 2.5 V; DatasheetVersion: Rev. H; PackageVersion: Rev. B, 08/2008; PackageReference: TF-BGA-165; PackageDescription: 165-Pin 13 x 15 mm TF-BGA, Pitch 1 mm; Organization: 512Kx18; VccQ: 2.5 V; Mounting Technology: Surface Mount; ComponentLink1Description: Manufacturer URL; ComponentLink1URL: http://www.issi.com/US/index.shtml; ComponentLink2Description: Datasheet; ComponentLink2URL: http://www.issi.com/WW/pdf/61VF_LF25636A_51218A.pdf; ComponentLink3Description: Package Specification; ComponentLink3URL: http://www.issi.com/WW/pdf/61NLP_NVP25636A_51218A.pdf
footprint ISSI-TF-BGA-165-13000X15000DE (BGA, 165-Balls, Body 15x13mm, Pitch 1mm)
part A pins: A2 A (in) "Address Input", A3 ~{CE} (in) "Synchronous Chip Select", A4 ~{BWb} (in) "Synchronous Byte Write Control", A6 ~{CE2} (in) "Synchronous Chip Select", A7 ~{BWE} (in) "Byte Write Enable", A8 ~{ADSC} (in) "Address Status Controller", A9 ~{ADV} (in) "Synchronous Burst Address Advance", A10 A (in) "Address Input", A11 A (in) "Address Input", B2 A (in) "Address Input", B3 CE2 (in) "Synchronous Chip Select", B5 ~{BWa} (in) "Synchronous Byte Write Control", B6 CLK (in) "Synchronous Clock", B7 ~{GW} (in) "Global Write Enable", B8 ~{OE} (in) "Output Enable", B9 ~{ADSP} (in) "Address Status Processor", B10 A (in) "Address Input", C11 DQPa (io) "Data Input/Output", D2 DQb (io) "Data Input/Output", D11 DQa (io) "Data Input/Output", E2 DQb (io) "Data Input/Output", E11 DQa (io) "Data Input/Output", F2 DQb (io) "Data Input/Output", F11 DQa (io) "Data Input/Output", G2 DQb (io) "Data Input/Output", G11 DQa (io) "Data Input/Output", H11 ZZ (in) "Power Sleep Mode", J1 DQb (io) "Data Input/Output", J10 DQa (io) "Data Input/Output", K1 DQb (io) "Data Input/Output", K10 DQa (io) "Data Input/Output", L1 DQb (io) "Data Input/Output", L10 DQa (io) "Data Input/Output", M1 DQb (io) "Data Input/Output", M10 DQa (io) "Data Input/Output", N1 DQPb (io) "Data Input/Output", P3 A (in) "Address Input", P4 A (in) "Address Input", P5 TDI (in) "JTAG Pin", P6 A1 (in) "Synchronous Burst Address Input", P7 TDO (out) "JTAG Pin", P8 A (in) "Address Input", P9 A (in) "Address Input", P10 A (in) "Address Input", P11 A (in) "Address Input", R1 MODE (in) "Burst Sequence Selection", R3 A (in) "Address Input", R4 A (in) "Address Input", R5 TMS (in) "JTAG Pin", R6 A0 (in) "Synchronous Burst Address Input", R7 TCK (in) "JTAG Pin", R8 A (in) "Address Input", R9 A (in) "Address Input", R10 A (in) "Address Input", R11 A (in) "Address Input"
part B pins: C3 VDDQ (power) "Isolated Output Power Supply 3.3V/2.5V", C4 VSS (power) "Ground", C5 VSS (power) "Ground", C6 VSS (power) "Ground", C7 VSS (power) "Ground", C8 VSS (power) "Ground", C9 VDDQ (power) "Isolated Output Power Supply 3.3V/2.5V", D3 VDDQ (power) "Isolated Output Power Supply 3.3V/2.5V", D4 VDD (power) "3.3V/2.5V Power Supply", D5 VSS (power) "Ground", D6 VSS (power) "Ground", D7 VSS (power) "Ground", D8 VDD (power) "3.3V/2.5V Power Supply", D9 VDDQ (power) "Isolated Output Power Supply 3.3V/2.5V", E3 VDDQ (power) "Isolated Output Power Supply 3.3V/2.5V", E4 VDD (power) "3.3V/2.5V Power Supply", E5 VSS (power) "Ground", E6 VSS (power) "Ground", E7 VSS (power) "Ground", E8 VDD (power) "3.3V/2.5V Power Supply", E9 VDDQ (power) "Isolated Output Power Supply 3.3V/2.5V", F3 VDDQ (power) "Isolated Output Power Supply 3.3V/2.5V", F4 VDD (power) "3.3V/2.5V Power Supply", F5 VSS (power) "Ground", F6 VSS (power) "Ground", F7 VSS (power) "Ground", F8 VDD (power) "3.3V/2.5V Power Supply", F9 VDDQ (power) "Isolated Output Power Supply 3.3V/2.5V", G3 VDDQ (power) "Isolated Output Power Supply 3.3V/2.5V", G4 VDD (power) "3.3V/2.5V Power Supply", G5 VSS (power) "Ground", G6 VSS (power) "Ground", G7 VSS (power) "Ground", G8 VDD (power) "3.3V/2.5V Power Supply", G9 VDDQ (power) "Isolated Output Power Supply 3.3V/2.5V", H2 VSS (power) "Ground", H4 VDD (power) "3.3V/2.5V Power Supply", H5 VSS (power) "Ground", H6 VSS (power) "Ground", H7 VSS (power) "Ground", H8 VDD (power) "3.3V/2.5V Power Supply", J3 VDDQ (power) "Isolated Output Power Supply 3.3V/2.5V", J4 VDD (power) "3.3V/2.5V Power Supply", J5 VSS (power) "Ground", J6 VSS (power) "Ground", J7 VSS (power) "Ground", J8 VDD (power) "3.3V/2.5V Power Supply", J9 VDDQ (power) "Isolated Output Power Supply 3.3V/2.5V", K3 VDDQ (power) "Isolated Output Power Supply 3.3V/2.5V", K4 VDD (power) "3.3V/2.5V Power Supply", K5 VSS (power) "Ground", K6 VSS (power) "Ground", K7 VSS (power) "Ground", K8 VDD (power) "3.3V/2.5V Power Supply", K9 VDDQ (power) "Isolated Output Power Supply 3.3V/2.5V", L3 VDDQ (power) "Isolated Output Power Supply 3.3V/2.5V", L4 VDD (power) "3.3V/2.5V Power Supply", L5 VSS (power) "Ground", L6 VSS (power) "Ground", L7 VSS (power) "Ground", L8 VDD (power) "3.3V/2.5V Power Supply", L9 VDDQ (power) "Isolated Output Power Supply 3.3V/2.5V", M3 VDDQ (power) "Isolated Output Power Supply 3.3V/2.5V", M4 VDD (power) "3.3V/2.5V Power Supply", M5 VSS (power) "Ground", M6 VSS (power) "Ground", M7 VSS (power) "Ground", M8 VDD (power) "3.3V/2.5V Power Supply", M9 VDDQ (power) "Isolated Output Power Supply 3.3V/2.5V", N3 VDDQ (power) "Isolated Output Power Supply 3.3V/2.5V", N4 VSS (power) "Ground", N8 VSS (power) "Ground", N9 VDDQ (power) "Isolated Output Power Supply 3.3V/2.5V"
part C pins: A1 NC "No Connect", A5 NC "No Connect", B1 NC "No Connect", B4 NC "No Connect", B11 NC "No Connect", C1 NC "No Connect", C2 NC "No Connect", C10 NC "No Connect", D1 NC "No Connect", D10 NC "No Connect", E1 NC "No Connect", E10 NC "No Connect", F1 NC "No Connect", F10 NC "No Connect", G1 NC "No Connect", G10 NC "No Connect", H1 NC "No Connect", H3 NC "No Connect", H9 NC "No Connect", H10 NC "No Connect", J2 NC "No Connect", J11 NC "No Connect", K2 NC "No Connect", K11 NC "No Connect", L2 NC "No Connect", L11 NC "No Connect", M2 NC "No Connect", M11 NC "No Connect", N2 NC "No Connect", N5 NC "No Connect", N6 NC "No Connect", N7 NC "No Connect", N10 NC "No Connect", N11 NC "No Connect", P1 NC "No Connect", P2 NC "No Connect", R2 NC "No Connect"